# EAGLE library part TL074CN (library TL074CN)
Quad Low-Noise JFET-Input General-Purpose Operational Amplifier Source: Datasheet
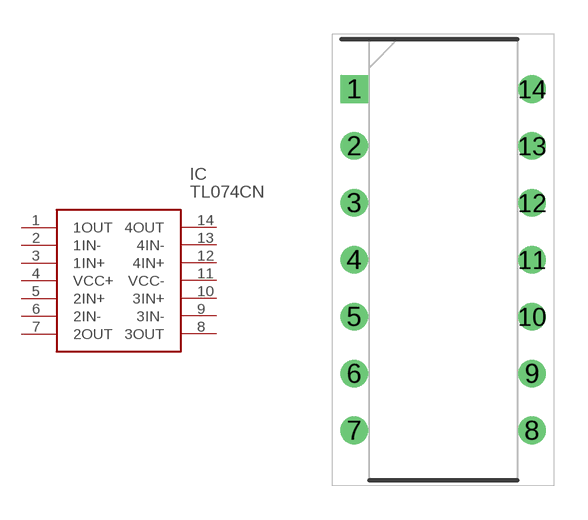
[diagram p0: symbol with the pads of DIP794W53P254L1930H508Q14N; footprint DIP794W53P254L1930H508Q14N]

Designator prefix IC

## TL074CN (Description: Quad Low-Noise JFET-Input General-Purpose Operational Amplifier; Height: 5.08mm; Manufacturer_Name: Texas Instruments; Manufacturer_Part_Number: TL074CN; Mouser_Part_Number: 595-TL074CN; Mouser_Price-Stock: https://www.mouser.co.uk/ProductDetail/Texas-Instruments/TL074CN?qs=AMJt07B76uv7dLYnj7iLiQ%3D%3D)  [DIP794W53P254L1930H508Q14N]
1  1OUT
2  1IN-
3  1IN+
4  VCC+
5  2IN+
6  2IN-
7  2OUT
8  3OUT
9  3IN-
10  3IN+
11  VCC-
12  4IN+
13  4IN-
14  4OUT

## Footprint DIP794W53P254L1930H508Q14N (pad centres in mm)
N (R-PDIP-T14)
drill 0.73 pad 1.13 square: 1 -3.97,7.62
drill 0.73 pad 1.13: 2 -3.97,5.08; 3 -3.97,2.54; 4 -3.97,0; 5 -3.97,-2.54; 6 -3.97,-5.08; 7 -3.97,-7.62; 8 3.97,-7.62; 9 3.97,-5.08; 10 3.97,-2.54; 11 3.97,0; 12 3.97,2.54; 13 3.97,5.08; 14 3.97,7.62